# Altium integrated library stm32F030x.IntLib: 1 symbol
Pins are listed as number, name and electrical type; pins without a type are passive.

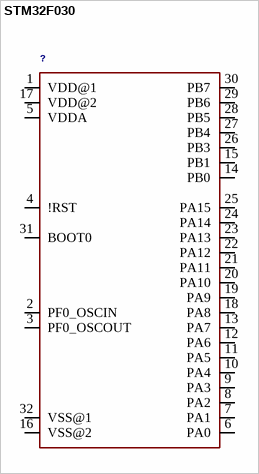
[diagram p0: symbol STM32F030]

## STM32F030
designator ?
GateName_1: G$1; SymbolName_1: STM32F030X; DeviceSetName: STM32F030; LibraryName: stm32F030x; Package: TQFP32-08
footprint TQFP32-08
pins: 1 VDD@1, 2 PF0_OSCIN, 3 PF0_OSCOUT, 4 !RST, 5 VDDA, 6 PA0, 7 PA1, 8 PA2, 9 PA3, 10 PA4, 11 PA5, 12 PA6, 13 PA7, 14 PB0, 15 PB1, 16 VSS@2, 17 VDD@2, 18 PA8, 19 PA9, 20 PA10, 21 PA11, 22 PA12, 23 PA13, 24 PA14, 25 PA15, 26 PB3, 27 PB4, 28 PB5, 29 PB6, 30 PB7, 31 BOOT0, 32 VSS@1